# EAGLE library part 658801103080 (library Wurth_Connectors_WR-BTB)
WR-BTB 0.80 mm Female Vertical SMT 11.75 Receptacle KIND PROPERTIES: Pitch 0.8 mm Quality Class 30 Mating cycles MATERIAL PROPERTIES: Insulator Material LCP Insulator Flammability Rating UL94 V-0 Insulator Color Ivory Contact Copper Alloy Contact Plating Selective Gold Contact Type Stamped GENERAL PROPERTIES: Operating Temperature -55 °C up to +85 °C Compliance Lead free / RoHS ELECTRICAL PROPERTIES: Rated Current [1] 0.5 A Working Voltage 50 V (AC) Withstanding Voltage 500 V (AC) Contact Resistance 50 mΩ Insulation Resistance 100 MΩ PACKAGING PROPERTIES: Packaging Tape and Reel with Cap <https://www.we-online.com/catalog/media/o97322v209%20Family_WR-BTB_658801103040.jpg> Details see: https://www.we-online.com/katalog/en/em/BTB_0_80_FEMALE_SMT_VERTICAL_RECEPTACLE_H11_75_658801103XXX Updated by Yingchun,Shan 2019-10-15 2019 (C) Würth Elektronik
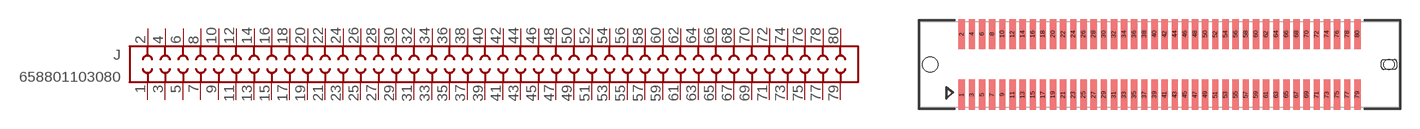
[diagram p12: symbol with the pads of 658801103080; footprint 658801103080]

Designator prefix J

## 658801103080 (DATASHEET-URL: https://www.we-online.com/catalog/datasheet/658801103080.pdf; GENDER: Female Receptacle; IR: 0.5A; PACKAGING: Tape and Reel with Cap; PART-NUMBER: 658801103080; PINS: 80; TYPE: Vertical; VALUE: 658801103080)  [658801103080]
1  1  pas
2  2  pas
3  3  pas
4  4  pas
5  5  pas
6  6  pas
7  7  pas
8  8  pas
9  9  pas
10  10  pas
11  11  pas
12  12  pas
13  13  pas
14  14  pas
15  15  pas
16  16  pas
17  17  pas
18  18  pas
19  19  pas
20  20  pas
21  21  pas
22  22  pas
23  23  pas
24  24  pas
25  25  pas
26  26  pas
27  27  pas
28  28  pas
29  29  pas
30  30  pas
31  31  pas
32  32  pas
33  33  pas
34  34  pas
35  35  pas
36  36  pas
37  37  pas
38  38  pas
39  39  pas
40  40  pas
41  41  pas
42  42  pas
43  43  pas
44  44  pas
45  45  pas
46  46  pas
47  47  pas
48  48  pas
49  49  pas
50  50  pas
51  51  pas
52  52  pas
53  53  pas
54  54  pas
55  55  pas
56  56  pas
57  57  pas
58  58  pas
59  59  pas
60  60  pas
61  61  pas
62  62  pas
63  63  pas
64  64  pas
65  65  pas
66  66  pas
67  67  pas
68  68  pas
69  69  pas
70  70  pas
71  71  pas
72  72  pas
73  73  pas
74  74  pas
75  75  pas
76  76  pas
77  77  pas
78  78  pas
79  79  pas
80  80  pas

## Footprint 658801103080 (pad centres in mm)
Con-BTB 0.80 mm Female Vertical SMT 11.75 Receptacle 80 Pins
smd 0.5 x 2.4: 1 -15.6,-2.4; 2 -15.6,2.4; 3 -14.8,-2.4; 4 -14.8,2.4; 5 -14,-2.4; 6 -14,2.4; 7 -13.2,-2.4; 8 -13.2,2.4; 9 -12.4,-2.4; 10 -12.4,2.4; 11 -11.6,-2.4; 12 -11.6,2.4; 13 -10.8,-2.4; 14 -10.8,2.4; 15 -10,-2.4; 16 -10,2.4; 17 -9.2,-2.4; 18 -9.2,2.4; 19 -8.4,-2.4; 20 -8.4,2.4; 21 -7.6,-2.4; 22 -7.6,2.4; 23 -6.8,-2.4; 24 -6.8,2.4; 25 -6,-2.4; 26 -6,2.4; 27 -5.2,-2.4; 28 -5.2,2.4; 29 -4.4,-2.4; 30 -4.4,2.4; 31 -3.6,-2.4; 32 -3.6,2.4; 33 -2.8,-2.4; 34 -2.8,2.4; 35 -2,-2.4; 36 -2,2.4; 37 -1.2,-2.4; 38 -1.2,2.4; 39 -0.4,-2.4; 40 -0.4,2.4; 41 0.4,-2.4; 42 0.4,2.4; 43 1.2,-2.4; 44 1.2,2.4; 45 2,-2.4; 46 2,2.4; 47 2.8,-2.4; 48 2.8,2.4; 49 3.6,-2.4; 50 3.6,2.4; 51 4.4,-2.4; 52 4.4,2.4; 53 5.2,-2.4; 54 5.2,2.4; 55 6,-2.4; 56 6,2.4; 57 6.8,-2.4; 58 6.8,2.4; 59 7.6,-2.4; 60 7.6,2.4; 61 8.4,-2.4; 62 8.4,2.4; 63 9.2,-2.4; 64 9.2,2.4; 65 10,-2.4; 66 10,2.4; 67 10.8,-2.4; 68 10.8,2.4; 69 11.6,-2.4; 70 11.6,2.4; 71 12.4,-2.4; 72 12.4,2.4; 73 13.2,-2.4; 74 13.2,2.4; 75 14,-2.4; 76 14,2.4; 77 14.8,-2.4; 78 14.8,2.4; 79 15.6,-2.4; 80 15.6,2.4
hole 1.2 at -18.1,0
hole 0.8 at 18.1,0